# EAGLE library part LAN8720 (library ELL-i-DigitalIC)
Small Footprint RMII 10/100 Ethernet Transceiver Datasheet <http://media.digikey.com/pdf/Data%20Sheets/SMSC/LAN8720.pdf> Mouser: 886-LAN8720AI-CP
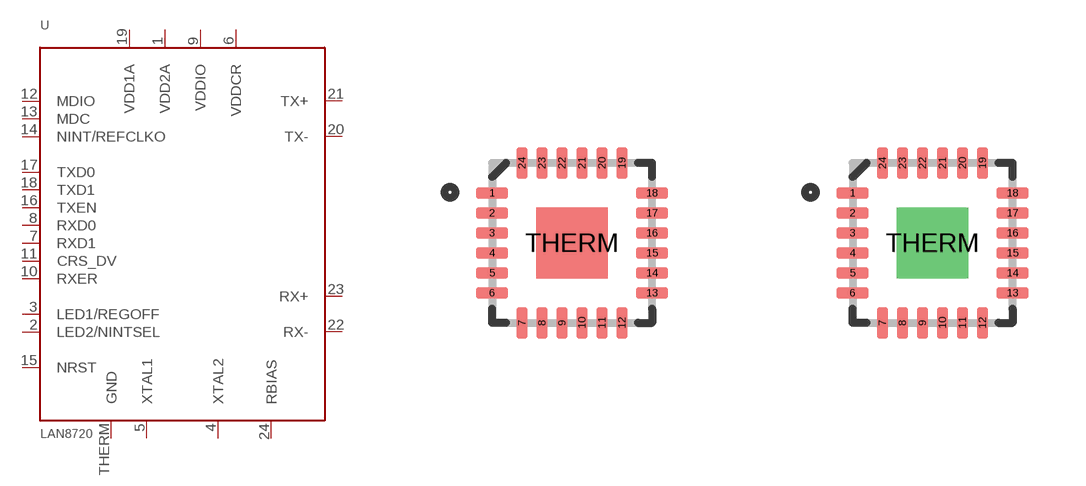
[diagram p0: symbol with the pads of QFN-24_4MM; footprints QFN-24_4MM, QFN-24_4MM-H]

Designator prefix U

## LAN8720  [QFN-24_4MM]
1  VDD2A
2  LED2/NINTSEL
3  LED1/REGOFF
4  XTAL2
5  XTAL1
6  VDDCR
7  RXD1
8  RXD0
9  VDDIO
10  RXER
11  CRS_DV
12  MDIO
13  MDC
14  NINT/REFCLKO
15  NRST
16  TXEN
17  TXD0
18  TXD1
19  VDD1A
20  TX-
21  TX+
22  RX-
23  RX+
24  RBIAS
THERM  GND

## LAN8720-H  [QFN-24_4MM-H]
Pads as for QFN-24_4MM

## Footprint QFN-24_4MM (pad centres in mm)
24 leads Quad-flat no-leads package (QNF) 4x4 mm, 0.5 mm pitch. See the SparkFun-DigitalIC.lbr for additional QFN24 packages. Wikipedia article on QFNs <https://en.wikipedia.org/wiki/QFN>
smd 0.8 x 0.28: 1 -2,1.25; 2 -2,0.75; 3 -2,0.25; 4 -2,-0.25; 5 -2,-0.75; 6 -2,-1.25; 13 2,-1.25; 14 2,-0.75; 15 2,-0.25; 16 2,0.25; 17 2,0.75; 18 2,1.25
smd 0.28 x 0.8: 7 -1.25,-2; 8 -0.75,-2; 9 -0.25,-2; 10 0.25,-2; 11 0.75,-2; 12 1.25,-2; 19 1.25,2; 20 0.75,2; 21 0.25,2; 22 -0.25,2; 23 -0.75,2; 24 -1.25,2
smd 1.778 x 1.778: THERM 0,0

## Footprint QFN-24_4MM-H (pad centres in mm)
24 leads Quad-flat no-leads package (QNF) with a hole 4x4 mm, 0.5 mm pitch, with a central hole. This footprint may be better than the regular one, depending on your process and intentions. See the SparkFun-DigitalIC.lbr for additional QFN24 packages. Wikipedia article on QFNs <https://en.wikipedia.org/wiki/QFN>
smd 0.8 x 0.28: 1 -2,1.25; 2 -2,0.75; 3 -2,0.25; 4 -2,-0.25; 5 -2,-0.75; 6 -2,-1.25; 13 2,-1.25; 14 2,-0.75; 15 2,-0.25; 16 2,0.25; 17 2,0.75; 18 2,1.25
smd 0.28 x 0.8: 7 -1.25,-2; 8 -0.75,-2; 9 -0.25,-2; 10 0.25,-2; 11 0.75,-2; 12 1.25,-2; 19 1.25,2; 20 0.75,2; 21 0.25,2; 22 -0.25,2; 23 -0.75,2; 24 -1.25,2
drill 1 pad 1.778 square: THERM 0,0